# Altium schematic symbol library 4.0 - OV系列CMOS图像传感器.SchLib: 4 symbols
Pins are listed as number, name and electrical type; pins without a type are passive.

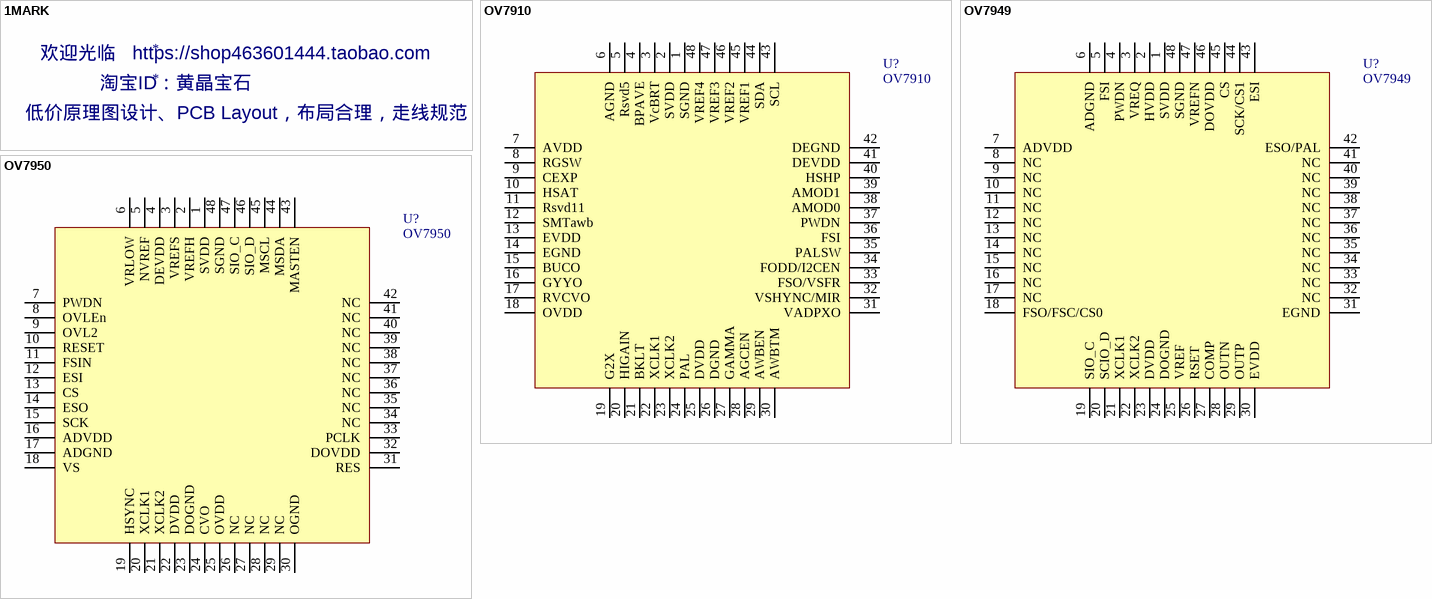
[diagram p0: symbols 1MARK to OV7950]

## 1MARK
designator *
text: 欢迎光临   https://shop463601444.taobao.com; 淘宝ID：黄晶宝石; 低价原理图设计、PCB Layout，布局合理，走线规范

## OV7910
designator U?
Video  IC; 技术支持，联系售后: https://shop463601444.taobao.com
pins: 1 SGND, 2 SVDD, 3 VcBRT, 4 BPAVE, 5 Rsvd5, 6 AGND, 7 AVDD, 8 RGSW, 9 CEXP, 10 HSAT, 11 Rsvd11, 12 SMTawb, 13 EVDD, 14 EGND, 15 BUCO, 16 GYYO, 17 RVCVO, 18 OVDD, 19 G2X, 20 HIGAIN, 21 BKLT, 22 XCLK1, 23 XCLK2, 24 PAL, 25 DVDD, 26 DGND, 27 GAMMA, 28 AGCEN, 29 AWBEN, 30 AWBTM, 31 VADPXO, 32 VSHYNC/MIR, 33 FSO/VSFR, 34 FODD/I2CEN, 35 PALSW, 36 FSI, 37 PWDN, 38 AMOD0, 39 AMOD1, 40 HSHP, 41 DEVDD, 42 DEGND, 43 SCL, 44 SDA, 45 VREF1, 46 VREF2, 47 VREF3, 48 VREF4

## OV7949
designator U?
Video  IC
pins: 1 SVDD, 2 HVDD, 3 VREQ, 4 PWDN, 5 FSI, 6 ADGND, 7 ADVDD, 8 NC, 9 NC, 10 NC, 11 NC, 12 NC, 13 NC, 14 NC, 15 NC, 16 NC, 17 NC, 18 FSO/FSC/CS0, 19 SIO_C, 20 SCIO_D, 21 XCLK1, 22 XCLK2, 23 DVDD, 24 DOGND, 25 VREF, 26 RSET, 27 COMP, 28 OUTN, 29 OUTP, 30 EVDD, 31 EGND, 32 NC, 33 NC, 34 NC, 35 NC, 36 NC, 37 NC, 38 NC, 39 NC, 40 NC, 41 NC, 42 ESO/PAL, 43 ESI, 44 SCK/CS1, 45 CS, 46 DOVDD, 47 VREFN, 48 SGND

## OV7950
designator U?
Video  IC; 封装库来自淘宝卖家 ID：黄晶宝石: 其他店铺购入均为盗版，不享受售后技术支持服务，请立即申请退款
pins: 1 SVDD, 2 VREFH, 3 VREFS, 4 DEVDD, 5 NVREF, 6 VRLOW, 7 PWDN, 8 OVLEn, 9 OVL2, 10 RESET, 11 FSIN, 12 ESI, 13 CS, 14 ESO, 15 SCK, 16 ADVDD, 17 ADGND, 18 VS, 19 HSYNC, 20 XCLK1, 21 XCLK2, 22 DVDD, 23 DOGND, 24 CVO, 25 OVDD, 26 NC, 27 NC, 28 NC, 29 NC, 30 OGND, 31 RES, 32 DOVDD, 33 PCLK, 34 NC, 35 NC, 36 NC, 37 NC, 38 NC, 39 NC, 40 NC, 41 NC, 42 NC, 43 MASTEN, 44 MSDA, 45 MSCL, 46 SIO_D, 47 SIO_C, 48 SGND